# EAGLE library part AE452121AH-1210 (library saw-filters-narrowband)
AE452121AH-1210 Параметр Ед. изм. Мин. значение Тип. значение Макс. значение Центральная частота МГц 1209.5 1210 1212 Минимальное вносимое затухание дБ 5.5 6.5 7.5 Полоса среза по уровню -2 дБ МГц 10 13 - Полоса среза по уровню -40 дБ МГц - 44 - Неравномерность АЧХ дБ - 1.5 2 Групповое время задержки нс - - - Гарантированное затухание дБ - 50 - Температурный диапазон °C -55 22 +85 Материал подложки - - Танталат лития 36 -
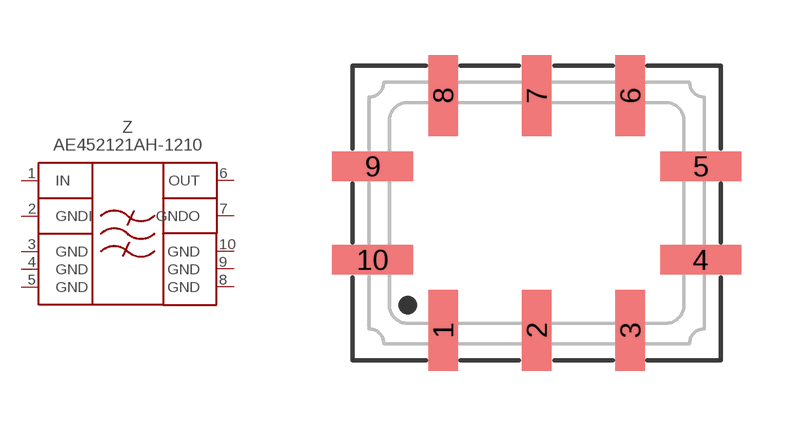
[diagram p62: symbol with the pads of QCC10-1; footprint QCC10-1]

Designator prefix Z

## AE452121AH-1210  [QCC10-1]
1  IN  pas
2  GNDI  pas
3  GND  pwr
4  GND  pwr
5  GND  pwr
6  OUT  pas
7  GNDO  pas
8  GND  pwr
9  GND  pwr
10  GND  pwr

## Footprint QCC10-1 (pad centres in mm)
smd 0.8 x 2.2: 1 -2.54,-3.185; 2 0,-3.185; 3 2.54,-3.185; 6 2.54,3.185; 7 0,3.185; 8 -2.54,3.185
smd 2.2 x 0.8: 4 4.455,-1.27; 5 4.455,1.27; 9 -4.455,1.27; 10 -4.455,-1.27